# Altium footprint library AltiumDesigner.PcbLib: 151 footprints (part 1 of 10)
Each footprint in its own frame and in the unit in brackets; x right, y up, seen from the top. Pads: shape width x height; smd on the part's side, far side on the other; paste and mask are expansions set on the pad; w line width, h text height; cw(c..) or ccw(c..) is an arc to the next point about the centre after c.
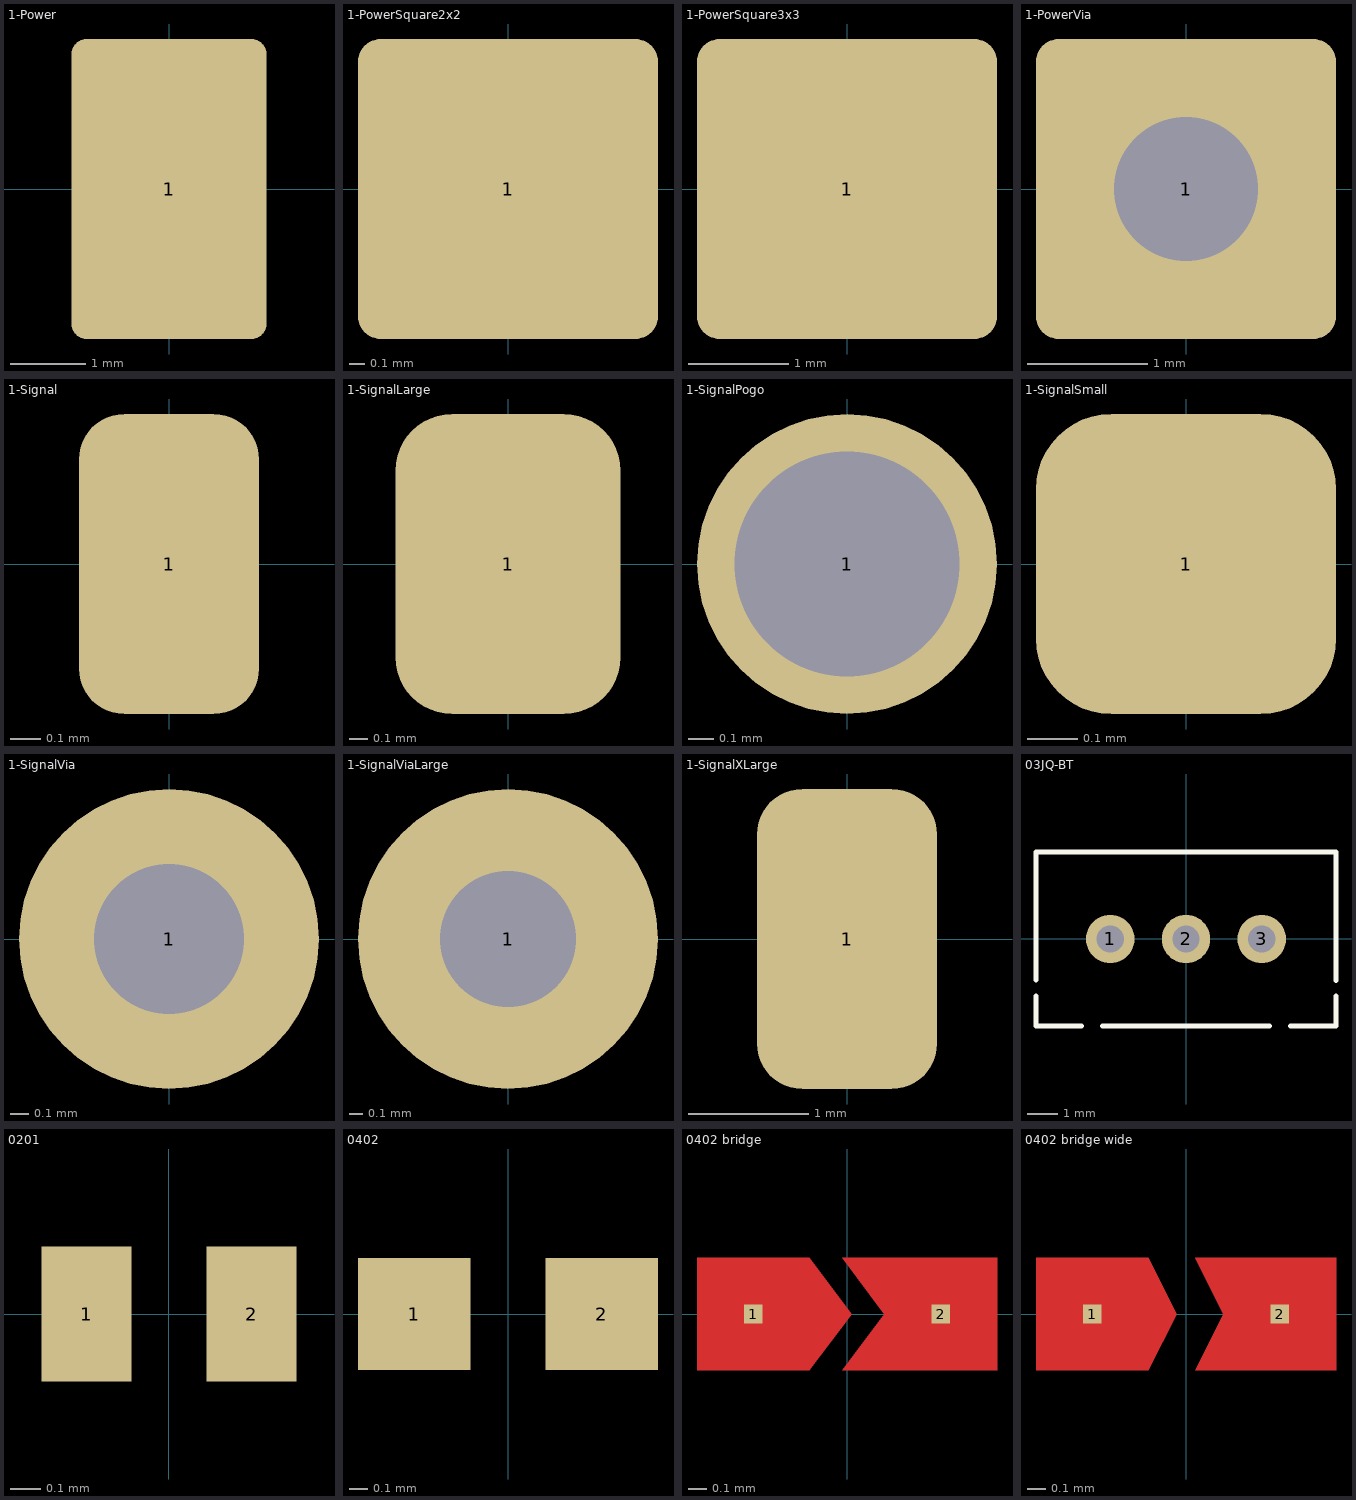
[diagram p0: the footprints below, top view; thin cyan lines are the x and y axes]

## 1-Power [mm]
pads (1):
  rrect15% 2.6x4 smd paste-2: 1(0,0)

## 1-PowerSquare2x2 [mm]
pads (1):
  rrect15% 2x2 smd paste-2: 1(0,0)

## 1-PowerSquare3x3 [mm]
pads (1):
  rrect15% 3x3 smd paste-2: 1(0,0)

## 1-PowerVia [mm]
pads (1):
  rrect15% 2.5x2.5 hole 1.2: 1(0,0)

## 1-Signal [mm]
pads (1):
  rrect50% 0.6x1 smd paste-2: 1(0,0)

## 1-SignalLarge [mm]
pads (1):
  rrect50% 1.2x1.6 smd paste-2: 1(0,0)

## 1-SignalPogo [mm]
pads (1):
  round 1.2 hole 0.9 paste-2539.97: 1(0,0)

## 1-SignalSmall [mm]
pads (1):
  rrect50% 0.6x0.6 smd paste-1: 1(0,0)

## 1-SignalVia [mm]
pads (1):
  round 1.6 hole 0.8: 1(0,0)

## 1-SignalViaLarge [mm]
pads (1):
  round 2.2 hole 1: 1(0,0)

## 1-SignalXLarge [mm]
pads (1):
  rrect50% 1.5x2.5 smd paste-2: 1(0,0)

## 03JQ-BT [mm]
pads (3):
  round 1.6 hole 0.9: 1(-2.5,0) 2(0,0) 3(2.5,0)
Top Overlay:
  lines w0.16: -4.95,-1.875 -4.95,-2.875 -3.45,-2.875 ; -4.95,-1.35 -4.95,2.875 4.95,2.875 4.95,-1.375 ; -2.75,-2.875 2.75,-2.875 ; 3.45,-2.875 4.95,-2.875 4.95,-1.875

## 0201 [mm]
pads (2):
  rect 0.3x0.45 smd: 1(-0.275,0) 2(0.275,0)

## 0402 [mm]
pads (2):
  rect 0.6x0.6 smd: 1(-0.5,0) 2(0.5,0)

## 0402 bridge [mm]
pads (2):
  rect 0.1x0.1 smd paste-1: 1(-0.5,0) 2(0.5,0)
Top Layer:
  region: 0.8,0.3 -0.025,0.3 0.2,0 -0.025,-0.3 0.8,-0.3
  region: -0.8,0.3 -0.2,0.3 0.025,0 -0.2,-0.3 -0.8,-0.3

## 0402 bridge wide [mm]
pads (2):
  rect 0.1x0.1 smd paste-1: 1(-0.5,0) 2(0.5,0)
Top Layer:
  region: 0.8,0.3 0.05,0.3 0.2,0 0.05,-0.3 0.8,-0.3
  region: -0.8,0.3 -0.2,0.3 -0.05,0 -0.2,-0.3 -0.8,-0.3